# EAGLE library part NAGANO-DHD (library bodger)
DC-DC CONVERTER
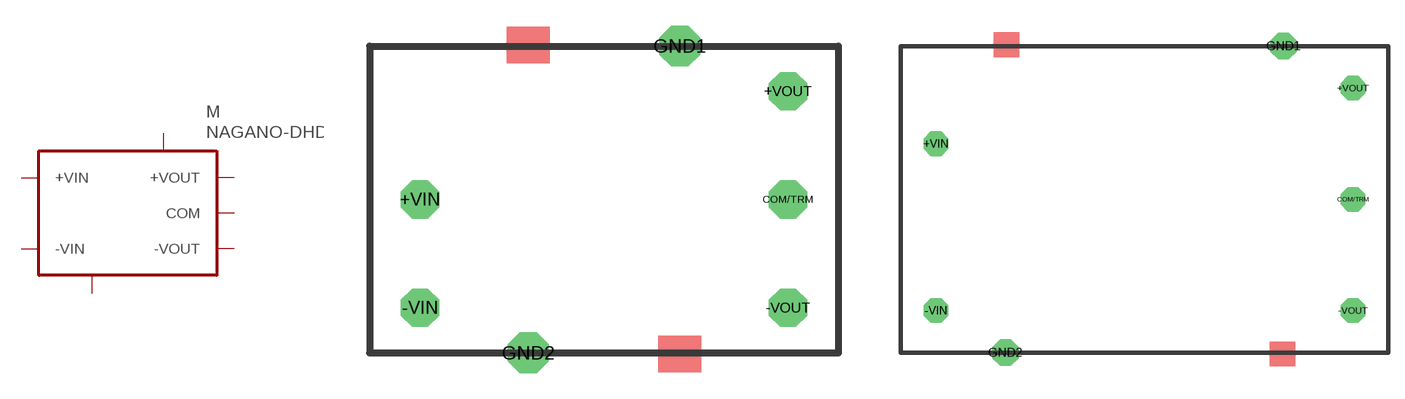
[diagram p3: symbol with the pads of DHD1.5_DHS1.5; footprints DHD1.5_DHS1.5, DHD6_DHS6]

Designator prefix M

## NAGANO-DHD1.5  [DHD1.5_DHS1.5]
+VIN  +VIN  pas
+VOUT  +VOUT  pas
-VIN  -VIN  pas
-VOUT  -VOUT  pas
COM/TRM  COM  pas
GND1  GND1  pas
GND2  GND4  pas

## NAGANO-DHD6  [DHD6_DHS6]
Pads as for DHD1.5_DHS1.5

## Footprint DHD1.5_DHS1.5 (pad centres in mm)
DC-DC CONVERTER
drill 1.5 octagon: +VIN -10.795,0; +VOUT 10.795,6.35; -VIN -10.795,-6.35; -VOUT 10.795,-6.35; COM/TRM 10.795,0
drill 1.6 octagon: GND1 4.445,9; GND2 -4.445,-9

## Footprint DHD6_DHS6 (pad centres in mm)
DC-DC CONVERTER
drill 1.5 octagon: +VIN -19.05,5.08; +VOUT 19.05,10.16; -VIN -19.05,-10.16; -VOUT 19.05,-10.16; COM/TRM 19.05,0
drill 1.6 octagon: GND1 12.7,14; GND2 -12.7,-14